# Altium footprint library SnapEDApcb.PcbLib: 1 footprints
Each footprint in its own frame and in the unit in brackets; x right, y up, seen from the top. Pads: shape width x height; smd on the part's side, far side on the other; paste and mask are expansions set on the pad; w line width, h text height; cw(c..) or ccw(c..) is an arc to the next point about the centre after c.
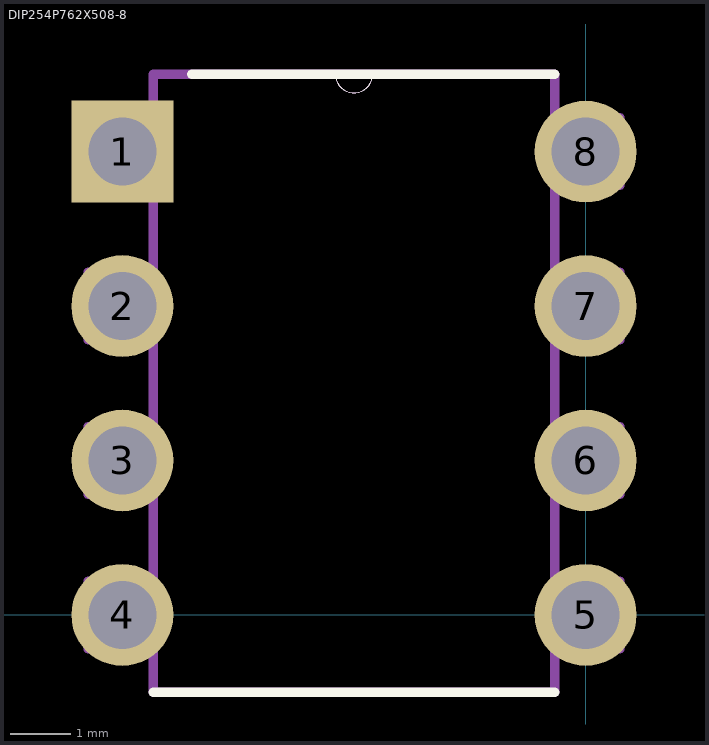
[diagram p0: the footprint, top view; thin cyan lines are the x and y axes]

## DIP254P762X508-8 [mil]
pads (8):
  rect 66x66 hole 44: 1(-300,300)
  round 66 hole 44: 2(-300,200) 3(-300,100) 4(-300,0) 5(0,0) 6(0,100) 7(0,200) 8(0,300)
Top Overlay:
  lines w0: -162,350 ccw(c-150,350) -138,350
  lines w6: -280,-50 -20,-50 ; -255,350 -162,350 -138,350 -20,350
Mechanical 13:
  lines w0: -162,350 ccw(c-150,350) -138,350
  lines w6: -322,-22 -280,-22 -280,22 -322,22 -322,-22 ; -322,78 -280,78 -280,122 -322,122 -322,78 ; -322,178 -280,178 -280,222 -322,222 -322,178 ; -322,278 -280,278 -280,322 -322,322 -322,278 ; -280,-50 -280,350 -162,350 -138,350 -20,350 -20,-50 -280,-50 ; -20,-22 22,-22 22,22 -20,22 -20,-22 ; -20,78 22,78 22,122 -20,122 -20,78 ; -20,178 22,178 22,222 -20,222 -20,178 ; -20,278 22,278 22,322 -20,322 -20,278
3D body "UC3843N.STEP": height 200, standoff -150, extent -304.99,-28.74 5,348.76